# EAGLE library part SN751178 (library NASA_LIB)
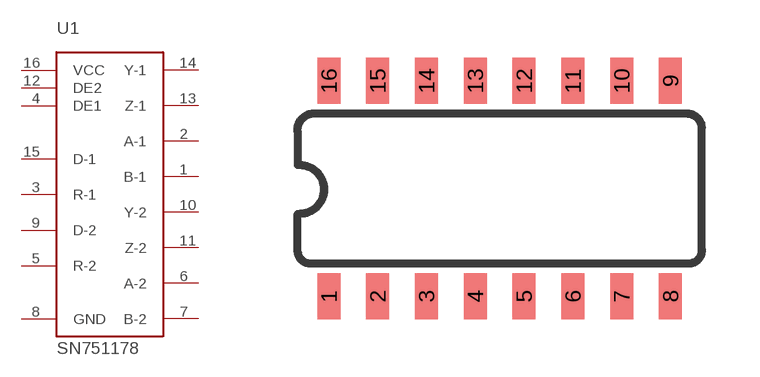
[diagram p33: symbol with the pads of S016; footprint S016]

Designator prefix U1

## SN751178  [S016]
1  B-1
2  A-1
3  R-1
4  DE1
5  R-2
6  A-2
7  B-2
8  GND
9  D-2
10  Y-2
11  Z-2
12  DE2
13  Z-1
14  Y-1
15  D-1
16  VCC

## Footprint S016 (pad centres in mm)
smd 0.6 x 1.2: 1 -4.445,-2.8; 2 -3.175,-2.8; 3 -1.905,-2.8; 4 -0.635,-2.8; 5 0.635,-2.8; 6 1.905,-2.8; 7 3.175,-2.8; 8 4.445,-2.8; 9 4.445,2.8; 10 3.175,2.8; 11 1.905,2.8; 12 0.635,2.8; 13 -0.635,2.8; 14 -1.905,2.8; 15 -3.175,2.8; 16 -4.445,2.8